# Altium footprint library Connector.PcbLib: 170 footprints (part 6 of 11)
Each footprint in its own frame and in the unit in brackets; x right, y up, seen from the top. Pads: shape width x height; smd on the part's side, far side on the other; paste and mask are expansions set on the pad; w line width, h text height; cw(c..) or ccw(c..) is an arc to the next point about the centre after c.
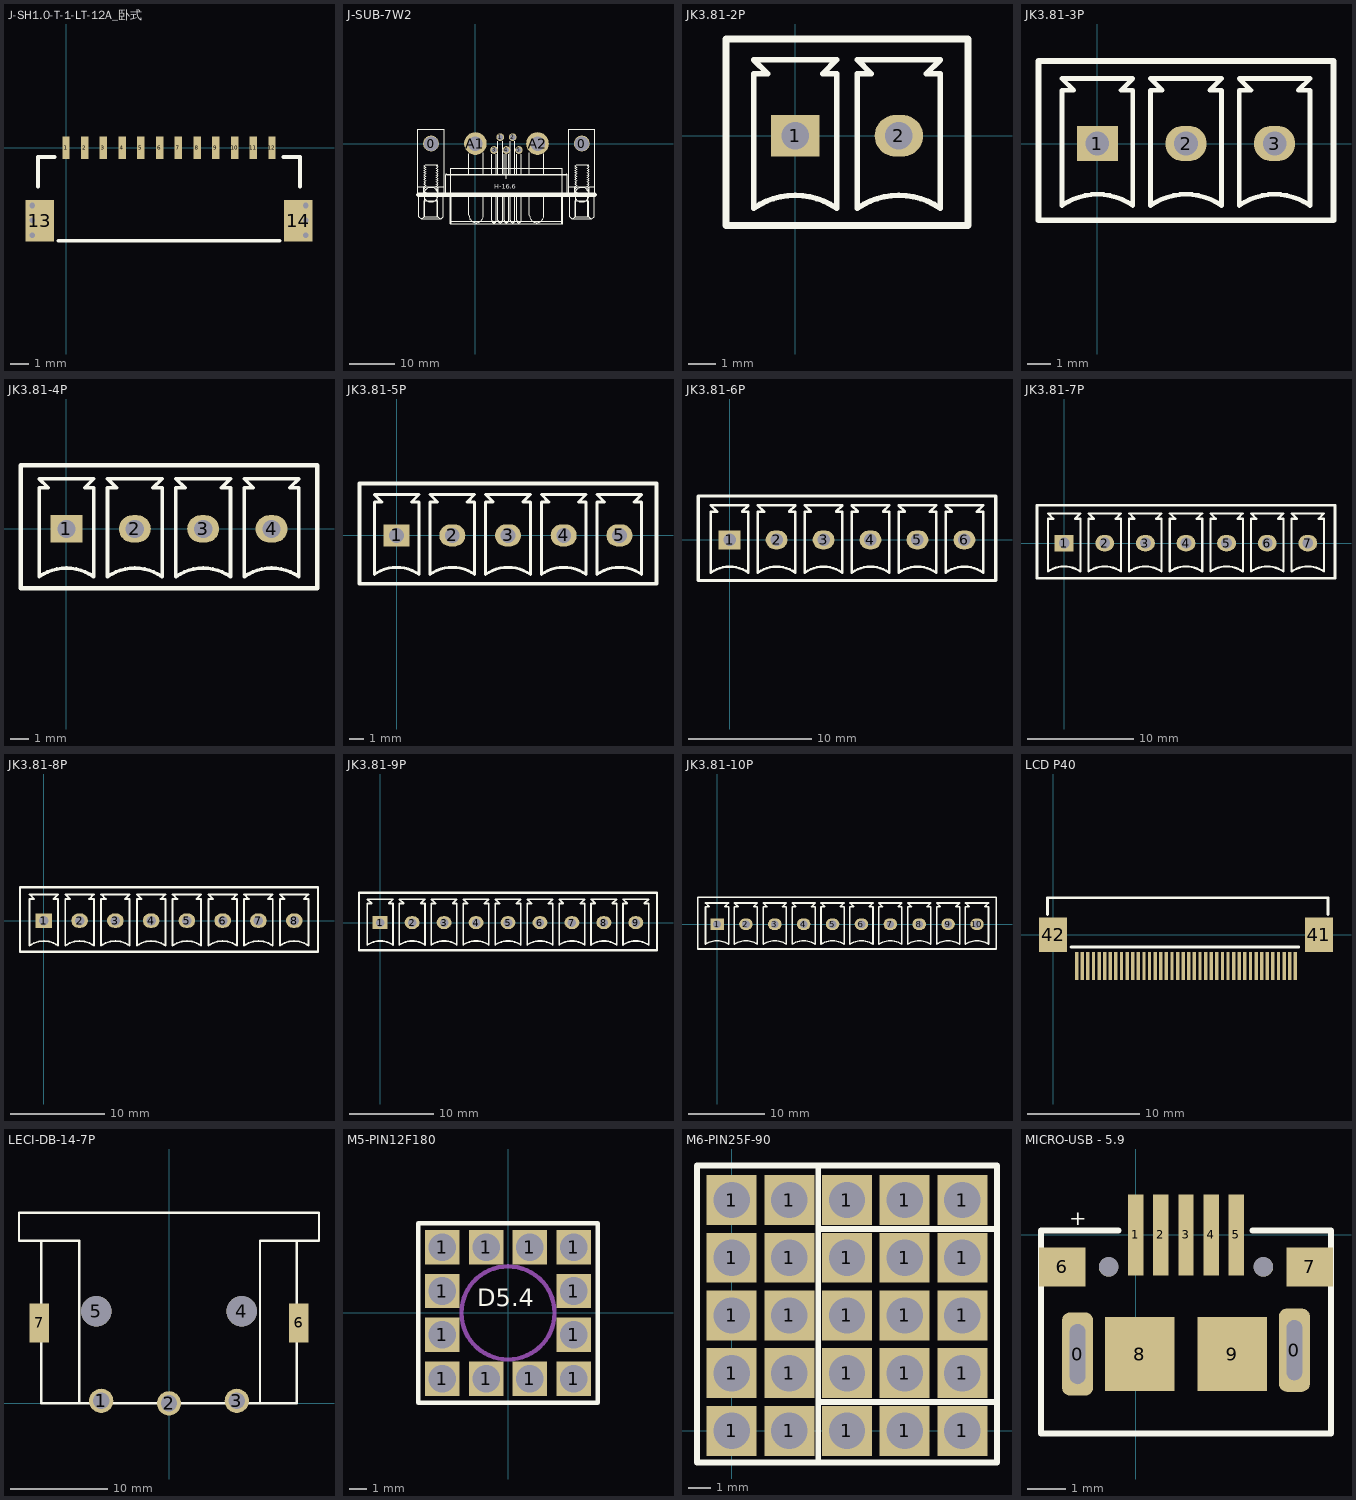
[diagram p5: the footprints below, top view; thin cyan lines are the x and y axes]

## J-SH1.0-T-1-LT-12A_卧式 [mm]
pads (14):
  rect 0.4x1.2 smd: 1(0,0) 2(1,0) 3(2,0) 4(3,0) 5(4,0) 6(5,0) 7(6,0) 8(7,0) 9(8,0) 10(9,0) 11(10,0) 12(11,0)
  rect 1.5x2.22 smd: 13(-1.4,-3.92) 14(12.4,-3.92)
via 12.8,-3.1 diameter 0.508 hole 0.305
via -1.8,-3.1 diameter 0.508 hole 0.305
via -1.8,-4.68 diameter 0.508 hole 0.305
via -1.8,-3.88 diameter 0.508 hole 0.305
via 12.8,-4.68 diameter 0.508 hole 0.305
via 12.8,-3.88 diameter 0.508 hole 0.305
Top Overlay:
  lines w0.2: -1.5,-2.1 -1.5,-0.5 -0.6,-0.5 ; -0.4,-4.98 11.4,-4.98 ; 11.6,-0.5 12.5,-0.5 12.5,-2.1

## J-SUB-7W2 [mm]
pads (9):
  round 3.5 hole 3.2: 0(-9.79,0) 0(23.51,0)
  round 1.7 hole 1.2: 1(5.49,1.42) 2(8.23,1.42) 3(4.12,-1.42) 4(6.86,-1.42) 5(9.6,-1.42)
  round 5 hole 3.2: A1(0,0) A2(13.72,0)
Top Overlay:
  drawing of 391 lines, arcs and shapes, not listed
  text "H-16.6" at 4.207,-9.978 h1.02
3D body "7w2_asm.stp": height 11.25, standoff -5.3, extent -12.767,-17.653 26.433,3.247

## JK3.81-2P [mil]
height 314.96
pads (2):
  rect 70x60 hole 40: 1(0,0)
  oval 70x60 hole 40: 2(150,0)
Top Overlay:
  lines w8: -60,-105 cw(c0,-190) 60,-105 60,90 40,90 60,110 -60,110 -40,90 -60,90 -60,-105 ; 90,-105 cw(c150,-190) 210,-105 210,90 190,90 210,110 90,110 110,90 90,90 90,-105
  lines w10: -100,-130 250,-130 250,140 -100,140 -100,-130
3D body: height 374.02, standoff -78.74, extent 136,-14 164,14
3D body: height 374.02, standoff -78.74, extent -14,-14 14,14
3D body: height 393.7, standoff 0, extent -100,-130 250,140
3D body: height 39.37, standoff 0, extent -100,-130 250,140

## JK3.81-3P [mil]
pads (3):
  rect 70x60 hole 40: 1(0,0)
  oval 70x60 hole 40: 2(150,0) 3(300,0)
Top Overlay:
  lines w8: -60,-105 cw(c0,-190) 60,-105 60,90 40,90 60,110 -60,110 -40,90 -60,90 -60,-105 ; 90,-105 cw(c150,-190) 210,-105 210,90 190,90 210,110 90,110 110,90 90,90 90,-105 ; 240,-105 cw(c300,-190) 360,-105 360,90 340,90 360,110 240,110 260,90 240,90 240,-105
  lines w10: -100,-130 -100,140 400,140 400,-130 -100,-130
3D body: height 374.02, standoff -78.74, extent 286,-14 314,14
3D body: height 374.02, standoff -78.74, extent 136,-14 164,14
3D body: height 374.02, standoff -78.74, extent -14,-14 14,14
3D body: height 393.7, standoff 0, extent -100,-130 80,140
3D body: height 393.7, standoff 0, extent 220,-130 400,140
3D body: height 393.7, standoff 0, extent 70,-130 230,140
3D body: height 39.37, standoff 0, extent -100,-130 400,140

## JK3.81-4P [mil]
pads (4):
  rect 70x60 hole 40: 1(0,0)
  oval 70x60 hole 40: 2(150,0) 3(300,0) 4(450,0)
Top Overlay:
  lines w8: -60,-105 cw(c0,-190) 60,-105 60,90 40,90 60,110 -60,110 -40,90 -60,90 -60,-105 ; 90,-105 cw(c150,-190) 210,-105 210,90 190,90 210,110 90,110 110,90 90,90 90,-105 ; 240,-105 cw(c300,-190) 360,-105 360,90 340,90 360,110 240,110 260,90 240,90 240,-105 ; 390,-105 cw(c450,-190) 510,-105 510,90 490,90 510,110 390,110 410,90 390,90 390,-105
  lines w10: -100,-130 -100,140 550,140 550,-130 -100,-130
3D body: height 374.02, standoff -78.74, extent 436,-14 464,14
3D body: height 374.02, standoff -78.74, extent 286,-14 314,14
3D body: height 374.02, standoff -78.74, extent 136,-14 164,14
3D body: height 374.02, standoff -78.74, extent -14,-14 14,14
3D body: height 393.7, standoff 0, extent 220,-130 380,140
3D body: height 393.7, standoff 0, extent 70,-130 230,140
3D body: height 393.7, standoff 0, extent -100,-130 80,140
3D body: height 393.7, standoff 0, extent 370,-130 550,140
3D body: height 39.37, standoff 0, extent -100,-130 550,140

## JK3.81-5P [mil]
pads (5):
  rect 70x60 hole 40: 1(0,0)
  oval 70x60 hole 40: 2(150,0) 3(300,0) 4(450,0) 5(600,0)
Top Overlay:
  lines w8: -60,-105 cw(c0,-190) 60,-105 60,90 40,90 60,110 -60,110 -40,90 -60,90 -60,-105 ; 90,-105 cw(c150,-190) 210,-105 210,90 190,90 210,110 90,110 110,90 90,90 90,-105 ; 240,-105 cw(c300,-190) 360,-105 360,90 340,90 360,110 240,110 260,90 240,90 240,-105 ; 390,-105 cw(c450,-190) 510,-105 510,90 490,90 510,110 390,110 410,90 390,90 390,-105 ; 540,-105 cw(c600,-190) 660,-105 660,90 640,90 660,110 540,110 560,90 540,90 540,-105
  lines w10: -100,-130 -100,140 700,140 700,-130 -100,-130
3D body: height 374.02, standoff -78.74, extent 436,-14 464,14
3D body: height 374.02, standoff -78.74, extent 286,-14 314,14
3D body: height 374.02, standoff -78.74, extent 136,-14 164,14
3D body: height 374.02, standoff -78.74, extent -14,-14 14,14
3D body: height 393.7, standoff 0, extent 220,-130 380,140
3D body: height 393.7, standoff 0, extent 70,-130 230,140
3D body: height 393.7, standoff 0, extent -100,-130 80,140
3D body: height 39.37, standoff 0, extent -100,-130 700,140
3D body: height 393.7, standoff 0, extent 520,-130 700,140
3D body: height 393.7, standoff 0, extent 370,-130 530,140
3D body: height 374.02, standoff -78.74, extent 586,-14 614,14

## JK3.81-6P [mil]
pads (6):
  rect 70x60 hole 40: 1(0,0)
  oval 70x60 hole 40: 2(150,0) 3(300,0) 4(450,0) 5(600,0) 6(750,0)
Top Overlay:
  lines w8: -60,-105 cw(c0,-190) 60,-105 60,90 40,90 60,110 -60,110 -40,90 -60,90 -60,-105 ; 90,-105 cw(c150,-190) 210,-105 210,90 190,90 210,110 90,110 110,90 90,90 90,-105 ; 240,-105 cw(c300,-190) 360,-105 360,90 340,90 360,110 240,110 260,90 240,90 240,-105 ; 390,-105 cw(c450,-190) 510,-105 510,90 490,90 510,110 390,110 410,90 390,90 390,-105 ; 540,-105 cw(c600,-190) 660,-105 660,90 640,90 660,110 540,110 560,90 540,90 540,-105 ; 690,-105 cw(c750,-190) 810,-105 810,90 790,90 810,110 690,110 710,90 690,90 690,-105
  lines w10: -100,-130 850,-130 850,140 -100,140 -100,-130
3D body: height 374.02, standoff -78.74, extent 436,-14 464,14
3D body: height 374.02, standoff -78.74, extent 286,-14 314,14
3D body: height 374.02, standoff -78.74, extent 136,-14 164,14
3D body: height 374.02, standoff -78.74, extent -14,-14 14,14
3D body: height 393.7, standoff 0, extent 220,-130 380,140
3D body: height 393.7, standoff 0, extent 70,-130 230,140
3D body: height 393.7, standoff 0, extent -100,-130 80,140
3D body: height 39.37, standoff 0, extent -100,-130 850,140
3D body: height 393.7, standoff 0, extent 370,-130 530,140
3D body: height 374.02, standoff -78.74, extent 586,-14 614,14
3D body: height 393.7, standoff 0, extent 670,-130 850,140
3D body: height 393.7, standoff 0, extent 520,-130 680,140
3D body: height 374.02, standoff -78.74, extent 736,-14 764,14

## JK3.81-7P [mil]
pads (7):
  rect 70x60 hole 40: 1(0,0)
  oval 70x60 hole 40: 2(150,0) 3(300,0) 4(450,0) 5(600,0) 6(750,0) 7(900,0)
Top Overlay:
  lines w8: -60,-105 cw(c0,-190) 60,-105 60,90 40,90 60,110 -60,110 -40,90 -60,90 -60,-105 ; 90,-105 cw(c150,-190) 210,-105 210,90 190,90 210,110 90,110 110,90 90,90 90,-105 ; 240,-105 cw(c300,-190) 360,-105 360,90 340,90 360,110 240,110 260,90 240,90 240,-105 ; 390,-105 cw(c450,-190) 510,-105 510,90 490,90 510,110 390,110 410,90 390,90 390,-105 ; 540,-105 cw(c600,-190) 660,-105 660,90 640,90 660,110 540,110 560,90 540,90 540,-105 ; 690,-105 cw(c750,-190) 810,-105 810,90 790,90 810,110 690,110 710,90 690,90 690,-105 ; 840,-105 cw(c900,-190) 960,-105 960,90 940,90 960,110 840,110 860,90 840,90 840,-105
  lines w10: -100,-130 1000,-130 1000,140 -100,140 -100,-130
3D body: height 374.02, standoff -78.74, extent 886,-14 914,14
3D body: height 393.7, standoff 0, extent 670,-130 830,140
3D body: height 393.7, standoff 0, extent 820,-130 1000,140
3D body: height 374.02, standoff -78.74, extent 436,-14 464,14
3D body: height 374.02, standoff -78.74, extent 286,-14 314,14
3D body: height 374.02, standoff -78.74, extent 136,-14 164,14
3D body: height 374.02, standoff -78.74, extent -14,-14 14,14
3D body: height 393.7, standoff 0, extent 220,-130 380,140
3D body: height 393.7, standoff 0, extent 70,-130 230,140
3D body: height 393.7, standoff 0, extent -100,-130 80,140
3D body: height 39.37, standoff 0, extent -100,-130 1000,140
3D body: height 393.7, standoff 0, extent 370,-130 530,140
3D body: height 374.02, standoff -78.74, extent 586,-14 614,14
3D body: height 393.7, standoff 0, extent 520,-130 680,140
3D body: height 374.02, standoff -78.74, extent 736,-14 764,14

## JK3.81-8P [mil]
pads (8):
  rect 70x60 hole 40: 1(0,0)
  oval 70x60 hole 40: 2(150,0) 3(300,0) 4(450,0) 5(600,0) 6(750,0) 7(900,0) 8(1050,0)
Top Overlay:
  lines w8: -60,-105 cw(c0,-190) 60,-105 60,90 40,90 60,110 -60,110 -40,90 -60,90 -60,-105 ; 90,-105 cw(c150,-190) 210,-105 210,90 190,90 210,110 90,110 110,90 90,90 90,-105 ; 240,-105 cw(c300,-190) 360,-105 360,90 340,90 360,110 240,110 260,90 240,90 240,-105 ; 390,-105 cw(c450,-190) 510,-105 510,90 490,90 510,110 390,110 410,90 390,90 390,-105 ; 540,-105 cw(c600,-190) 660,-105 660,90 640,90 660,110 540,110 560,90 540,90 540,-105 ; 690,-105 cw(c750,-190) 810,-105 810,90 790,90 810,110 690,110 710,90 690,90 690,-105 ; 840,-105 cw(c900,-190) 960,-105 960,90 940,90 960,110 840,110 860,90 840,90 840,-105 ; 990,-105 cw(c1050,-190) 1110,-105 1110,90 1090,90 1110,110 990,110 1010,90 990,90 990,-105
  lines w10: -100,-130 -100,140 1150,140 1150,-130 -100,-130
3D body: height 374.02, standoff -78.74, extent 886,-14 914,14
3D body: height 393.7, standoff 0, extent 670,-130 830,140
3D body: height 374.02, standoff -78.74, extent 436,-14 464,14
3D body: height 374.02, standoff -78.74, extent 286,-14 314,14
3D body: height 374.02, standoff -78.74, extent 136,-14 164,14
3D body: height 374.02, standoff -78.74, extent -14,-14 14,14
3D body: height 393.7, standoff 0, extent 220,-130 380,140
3D body: height 393.7, standoff 0, extent 70,-130 230,140
3D body: height 393.7, standoff 0, extent -100,-130 80,140
3D body: height 39.37, standoff 0, extent -100,-130 1150,140
3D body: height 393.7, standoff 0, extent 370,-130 530,140
3D body: height 374.02, standoff -78.74, extent 586,-14 614,14
3D body: height 393.7, standoff 0, extent 520,-130 680,140
3D body: height 374.02, standoff -78.74, extent 736,-14 764,14
3D body: height 393.7, standoff 0, extent 970,-130 1150,140
3D body: height 393.7, standoff 0, extent 820,-130 980,140
3D body: height 374.02, standoff -78.74, extent 1036,-14 1064,14

## JK3.81-9P [mil]
pads (9):
  rect 70x60 hole 40: 1(0,0)
  oval 70x60 hole 40: 2(150,0) 3(300,0) 4(450,0) 5(600,0) 6(750,0) 7(900,0) 8(1050,0) 9(1200,0)
Top Overlay:
  lines w8: -60,-105 cw(c0,-190) 60,-105 60,90 40,90 60,110 -60,110 -40,90 -60,90 -60,-105 ; 90,-105 cw(c150,-190) 210,-105 210,90 190,90 210,110 90,110 110,90 90,90 90,-105 ; 240,-105 cw(c300,-190) 360,-105 360,90 340,90 360,110 240,110 260,90 240,90 240,-105 ; 390,-105 cw(c450,-190) 510,-105 510,90 490,90 510,110 390,110 410,90 390,90 390,-105 ; 540,-105 cw(c600,-190) 660,-105 660,90 640,90 660,110 540,110 560,90 540,90 540,-105 ; 690,-105 cw(c750,-190) 810,-105 810,90 790,90 810,110 690,110 710,90 690,90 690,-105 ; 840,-105 cw(c900,-190) 960,-105 960,90 940,90 960,110 840,110 860,90 840,90 840,-105 ; 990,-105 cw(c1050,-190) 1110,-105 1110,90 1090,90 1110,110 990,110 1010,90 990,90 990,-105 ; 1140,-105 cw(c1200,-190) 1260,-105 1260,90 1240,90 1260,110 1140,110 1160,90 1140,90 1140,-105
  lines w10: -100,-130 1300,-130 1300,140 -100,140 -100,-130
3D body: height 374.02, standoff -78.74, extent 1036,-14 1064,14
3D body: height 393.7, standoff 0, extent 820,-130 980,140
3D body: height 374.02, standoff -78.74, extent 736,-14 764,14
3D body: height 393.7, standoff 0, extent 520,-130 680,140
3D body: height 374.02, standoff -78.74, extent 586,-14 614,14
3D body: height 393.7, standoff 0, extent 370,-130 530,140
3D body: height 39.37, standoff 0, extent -100,-130 1300,140
3D body: height 393.7, standoff 0, extent -100,-130 80,140
3D body: height 393.7, standoff 0, extent 70,-130 230,140
3D body: height 393.7, standoff 0, extent 220,-130 380,140
3D body: height 374.02, standoff -78.74, extent -14,-14 14,14
3D body: height 374.02, standoff -78.74, extent 136,-14 164,14
3D body: height 374.02, standoff -78.74, extent 286,-14 314,14
3D body: height 374.02, standoff -78.74, extent 436,-14 464,14
3D body: height 393.7, standoff 0, extent 670,-130 830,140
3D body: height 374.02, standoff -78.74, extent 886,-14 914,14
3D body: height 393.7, standoff 0, extent 1120,-130 1300,140
3D body: height 393.7, standoff 0, extent 970,-130 1130,140
3D body: height 374.02, standoff -78.74, extent 1186,-14 1214,14

## JK3.81-10P [mil]
pads (10):
  rect 70x60 hole 40: 1(0,0)
  oval 70x60 hole 40: 2(150,0) 3(300,0) 4(450,0) 5(600,0) 6(750,0) 7(900,0) 8(1050,0) 9(1200,0) 10(1350,0)
Top Overlay:
  lines w8: -60,-105 cw(c0,-190) 60,-105 60,90 40,90 60,110 -60,110 -40,90 -60,90 -60,-105 ; 90,-105 cw(c150,-190) 210,-105 210,90 190,90 210,110 90,110 110,90 90,90 90,-105 ; 240,-105 cw(c300,-190) 360,-105 360,90 340,90 360,110 240,110 260,90 240,90 240,-105 ; 390,-105 cw(c450,-190) 510,-105 510,90 490,90 510,110 390,110 410,90 390,90 390,-105 ; 540,-105 cw(c600,-190) 660,-105 660,90 640,90 660,110 540,110 560,90 540,90 540,-105 ; 690,-105 cw(c750,-190) 810,-105 810,90 790,90 810,110 690,110 710,90 690,90 690,-105 ; 840,-105 cw(c900,-190) 960,-105 960,90 940,90 960,110 840,110 860,90 840,90 840,-105 ; 990,-105 cw(c1050,-190) 1110,-105 1110,90 1090,90 1110,110 990,110 1010,90 990,90 990,-105 ; 1140,-105 cw(c1200,-190) 1260,-105 1260,90 1240,90 1260,110 1140,110 1160,90 1140,90 1140,-105 ; 1290,-105 cw(c1350,-190) 1410,-105 1410,90 1390,90 1410,110 1290,110 1310,90 1290,90 1290,-105
  lines w10: -100,-130 1450,-130 1450,140 -100,140 -100,-130
3D body: height 393.7, standoff 0, extent 1120,-130 1280,140
3D body: height 393.7, standoff 0, extent 1270,-130 1450,140
3D body: height 374.02, standoff -78.74, extent 1336,-14 1364,14
3D body: height 374.02, standoff -78.74, extent 1186,-14 1214,14
3D body: height 393.7, standoff 0, extent 970,-130 1130,140
3D body: height 374.02, standoff -78.74, extent 886,-14 914,14
3D body: height 393.7, standoff 0, extent 670,-130 830,140
3D body: height 374.02, standoff -78.74, extent 436,-14 464,14
3D body: height 374.02, standoff -78.74, extent 286,-14 314,14
3D body: height 374.02, standoff -78.74, extent 136,-14 164,14
3D body: height 374.02, standoff -78.74, extent -14,-14 14,14
3D body: height 393.7, standoff 0, extent 220,-130 380,140
3D body: height 393.7, standoff 0, extent 70,-130 230,140
3D body: height 393.7, standoff 0, extent -100,-130 80,140
3D body: height 39.37, standoff 0, extent -100,-130 1450,140
3D body: height 393.7, standoff 0, extent 370,-130 530,140
3D body: height 374.02, standoff -78.74, extent 586,-14 614,14
3D body: height 393.7, standoff 0, extent 520,-130 680,140
3D body: height 374.02, standoff -78.74, extent 736,-14 764,14
3D body: height 393.7, standoff 0, extent 820,-130 980,140
3D body: height 374.02, standoff -78.74, extent 1036,-14 1064,14

## LCD P40 [mm] "0.5MM 下接"
pads (42):
  rect 0.3x2.54 smd: 1(2.1,-2.783) 2(2.6,-2.783) 3(3.1,-2.783) 4(3.6,-2.783) 5(4.1,-2.783) 6(4.6,-2.783) 7(5.1,-2.783) 8(5.6,-2.783) 9(6.1,-2.783) 10(6.6,-2.783) 11(7.1,-2.783) 12(7.6,-2.783) 13(8.1,-2.783) 14(8.6,-2.783) 15(9.1,-2.783) 16(9.6,-2.783) 17(10.1,-2.783) 18(10.6,-2.783) 19(11.1,-2.783) 20(11.6,-2.783) 21(12.1,-2.783) 22(12.6,-2.783) 23(13.1,-2.783) 24(13.6,-2.783) 25(14.1,-2.783) 26(14.6,-2.783) 27(15.1,-2.783) 28(15.6,-2.783) 29(16.1,-2.783) 30(16.6,-2.783) 31(17.1,-2.783) 32(17.6,-2.783) 33(18.1,-2.783) 34(18.6,-2.783) 35(19.1,-2.783) 36(19.6,-2.783) 37(20.1,-2.783) 38(20.6,-2.783) 39(21.1,-2.783) 40(21.6,-2.783)
  rect 2.5x3.048 smd: 41(23.7,0) 42(0,0)
Top Overlay:
  lines w0.254: -0.5,1.817 -0.5,3.302 24.5,3.302 24.5,1.817 ; 1.6,-1.1 21.9,-1.1

## LECI-DB-14-7P [mm] "DB-14-7P"
pads (7):
  round 2.5 hole 1.7: 1(-7,0.254) 2(0,0) 3(7,0.254)
  round 3.15 hole 3.15 unplated: 4(7.5,9.5) 5(-7.5,9.5)
  rect 2x4 all layers, no hole: 6(13.4,8.3) 7(-13.4,8.3)
Top Overlay:
  lines w0.254: -9.271,0.015 -9.271,16.779 -13.208,16.779 ; 9.398,0.015 9.398,16.779 13.208,16.779 ; -13.208,16.779 -15.494,16.779 -15.494,19.7 15.494,19.7 15.494,16.779 13.208,16.779 ; -13.208,16.779 -13.208,0.015 13.208,0.015 13.208,16.779
Mechanical 1:
  lines w0.254: -13.858,7.327 -13.096,7.327 -13.096,9.867 -13.858,9.867 -13.858,7.327 ; 12.942,7.327 12.942,9.867 13.704,9.867 13.704,7.327 12.942,7.327
3D body: height 25, standoff 0, extent -15.494,0 15.494,19.685

## M5-PIN12F180 [mm] "PCB焊接导电螺栓"
pads (12):
  rect 2x2 hole 1.6: 1(-3.81,-3.81) 1(-3.81,-1.27) 1(-3.81,1.27) 1(-3.81,3.81) 1(-1.27,-3.81) 1(-1.27,3.81) 1(1.27,-3.81) 1(1.27,3.81) 1(3.81,-3.81) 1(3.81,-1.27) 1(3.81,1.27) 1(3.81,3.81)
Top Overlay:
  lines w0.254: -5.207,-5.207 -5.207,5.207 5.207,5.207 5.207,-5.207 -5.207,-5.207
  text "D5.4" at -1.778,0.381 h1.02
Bottom Solder:
  region: -4.826,4.953 -4.826,2.667 4.826,2.667 4.826,4.953
  region: -2.667,4.953 -4.953,4.953 -4.953,-4.953 -2.667,-4.953
  region: 4.953,-4.953 4.953,-2.667 -4.953,-2.667 -4.953,-4.953
  rectangle: 2.667,-4.953 4.953,4.953
Mechanical 1:
  circle w0.254: c0,0 r2.7
  text "CUT" at -1.27,-1.397 h1.02
Multi-Layer:
  region: 4.826,4.826 2.794,4.826 2.794,-4.826 4.826,-4.826
  region: -2.794,4.826 -4.826,4.826 -4.826,-4.826 -2.794,-4.826
  region: 4.826,-4.826 4.826,-2.794 -4.826,-2.794 -4.826,-4.826
  rectangle: -4.826,2.794 4.826,4.826
3D body: height 6, standoff 0, extent -4.826,-4.826 4.826,4.826
3D body: height 3.5, standoff -3.5, extent -4.381,-4.318 -3.238,-3.302
3D body: height 3.5, standoff -3.5, extent -1.841,-4.318 -0.699,-3.302
3D body: height 3.5, standoff -3.5, extent 0.699,-4.318 1.841,-3.302
3D body: height 3.5, standoff -3.5, extent 3.238,-4.318 4.381,-3.302
3D body: height 3.5, standoff -3.5, extent 3.238,-1.778 4.381,-0.762
3D body: height 3.5, standoff -3.5, extent 3.238,0.762 4.381,1.778
3D body: height 3.5, standoff -3.5, extent 3.238,3.302 4.381,4.318
3D body: height 3.5, standoff -3.5, extent 0.699,3.302 1.841,4.318
3D body: height 3.5, standoff -3.5, extent -1.841,3.302 -0.699,4.318
3D body: height 3.5, standoff -3.5, extent -4.381,3.302 -3.238,4.318
3D body: height 3.5, standoff -3.5, extent -4.381,0.762 -3.238,1.778
3D body: height 3.5, standoff -3.5, extent -4.381,-1.778 -3.238,-0.762

## M6-PIN25F-90 [mm] "PCB焊接导电螺栓"
pads (25):
  rect 2.2x2.2 hole 1.6: 1(0,0) 1(0,2.54) 1(0,5.08) 1(0,7.62) 1(0,10.16) 1(2.54,0) 1(2.54,2.54) 1(2.54,5.08) 1(2.54,7.62) 1(2.54,10.16) 1(5.08,0) 1(5.08,2.54) 1(5.08,5.08) 1(5.08,7.62) 1(5.08,10.16) 1(7.62,0) 1(7.62,2.54) 1(7.62,5.08) 1(7.62,7.62) 1(7.62,10.16) 1(10.16,0) 1(10.16,2.54) 1(10.16,5.08) 1(10.16,7.62) 1(10.16,10.16)
Top Overlay:
  lines w0.254: 3.81,-1.397 3.81,11.684 ; 3.81,1.27 11.557,1.27 ; 3.81,8.89 11.684,8.89 ; -1.524,-1.397 -1.524,11.684 11.684,11.684 11.684,-1.397 -1.524,-1.397
3D body "7461114.stp": height 20, standoff -3.5, extent -1.316,-1.397 11.684,11.603

## MICRO-USB - 5.9 [mm]
pads (13):
  rrect50% 0.8x2.15 hole 0.4 slot 1.55 at 90 deg: 0(-1.5,-3.075) 0(4.1,-2.975)
  rect 0.4x2.1 smd: 1(0,0) 2(0.65,0) 3(1.3,0) 4(1.95,0) 5(2.6,0)
  rect 1.2x1 smd: 6(-1.9,-0.825) 7(4.5,-0.825)
  rect 1.8x1.9 smd: 8(0.106,-3.075) 9(2.493,-3.075)
  round 0.5 hole 0.5 unplated: ""(-0.7,-0.825) ""(3.3,-0.825)
Top Overlay:
  lines w0.152: -0.443,0.118 -2.45,0.118 -2.45,-5.132 5.05,-5.132 5.05,0.118 3.019,0.118
  text "+" at -1.713,0.252 h0.4